# Altium schematic symbol library USB3-TYPE-C-16P.SchLib: 1 symbol
Pins are listed as number, name and electrical type; pins without a type are passive.

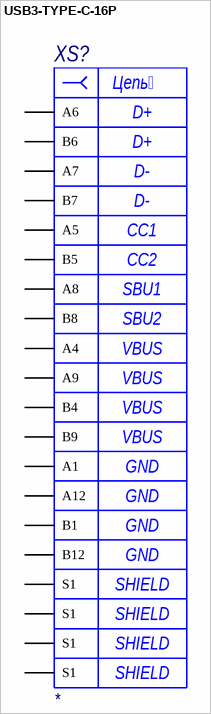
[diagram p0: symbol USB3-TYPE-C-16P]

## USB3-TYPE-C-16P
designator XS?
USB3 Connector Type-C 16 Pins; Value: *
pins: A1, A4, A5, A6, A7, A8, A9, A12, B1, B4, B5, B6, B7, B8, B9, B12, S1, S1, S1, S1
text: Цепь; D+; D-; CC1; CC2; SBU1; SBU2; VBUS; GND; SHIELD